# EAGLE library part DIALIGHT-4 (library Transputer)
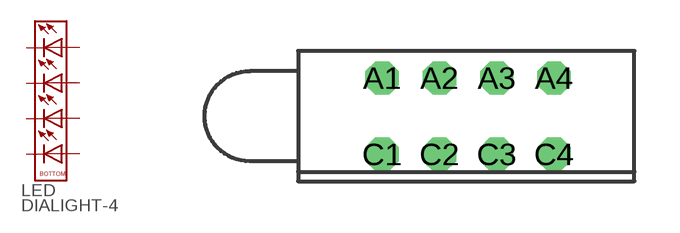
[diagram p4: symbol with the pads of DIALIGHT-4; footprint DIALIGHT-4]

Designator prefix LED

## DIALIGHT-4  [DIALIGHT-4]
A1  A1  pas
A2  A2  pas
A3  A3  pas
A4  A4  pas
C1  C1  pas
C2  C2  pas
C3  C3  pas
C4  C4  pas

## Footprint DIALIGHT-4 (pad centres in mm)
drill 0.6 pad 1.016 octagon: A1 0,1.27; A2 1.905,1.27; A3 3.81,1.27; A4 5.715,1.27; C1 0,-1.27; C2 1.905,-1.27; C3 3.81,-1.27; C4 5.715,-1.27